# EAGLE library part TRANSISTOR_PNP_PRE-BIASED_DUAL (library heck)
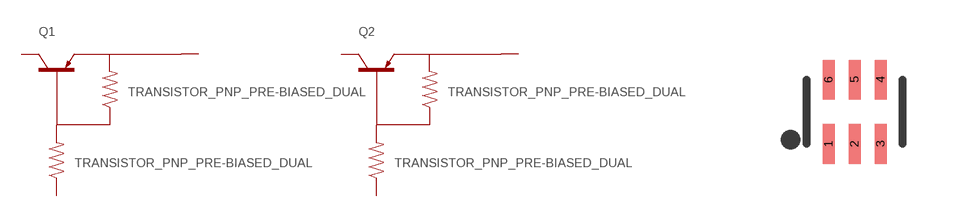
[diagram p44: symbol with the pads of SOT363; footprint SOT363]

Designator prefix Q; gates 1=TRANSISTOR_PNP_PRE-BIASED 2=TRANSISTOR_PNP_PRE-BIASED

## TRANSISTOR_PNP_PRE-BIASED_DUAL_SOT363  [SOT363]
1  1:E
2  1:B
3  2:C
4  2:E
5  2:B
6  1:C

## Footprint SOT363 (pad centres in mm)
smd 0.3 x 0.99: 1 -0.65,-0.8; 2 0,-0.8; 3 0.65,-0.8; 4 0.65,0.81; 5 0,0.81; 6 -0.65,0.81